# EAGLE library part MCON (library ConV4)
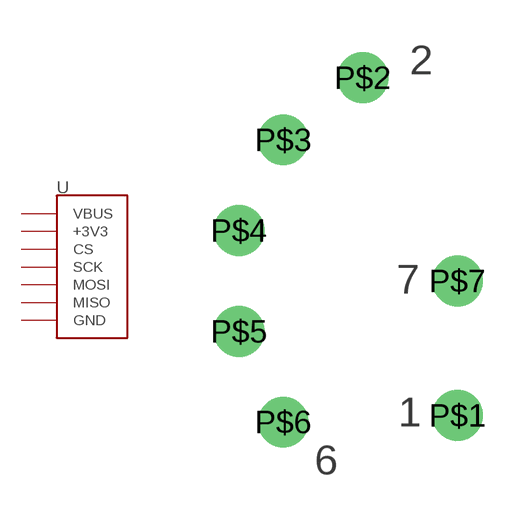
[diagram p1: symbol with the pads of CON7; footprint CON7]

Designator prefix -

## MCON  [CON7]
P$1  VBUS  pwr
P$2  +3V3  pwr
P$3  CS
P$4  SCK
P$5  MOSI
P$6  MISO
P$7  GND  pwr

## Footprint CON7 (pad centres in mm)
drill 0.8 pad 1.7: P$1 0,-4.5; P$2 -3.17,6.797; P$3 -5.829,4.72; P$4 -7.308,1.687; P$5 -7.308,-1.687; P$6 -5.829,-4.72; P$7 0,0